# Altium footprint library Agat.PcbLib: 16 footprints
Each footprint in its own frame and in the unit in brackets; x right, y up, seen from the top. Pads: shape width x height; smd on the part's side, far side on the other; paste and mask are expansions set on the pad; w line width, h text height; cw(c..) or ccw(c..) is an arc to the next point about the centre after c.
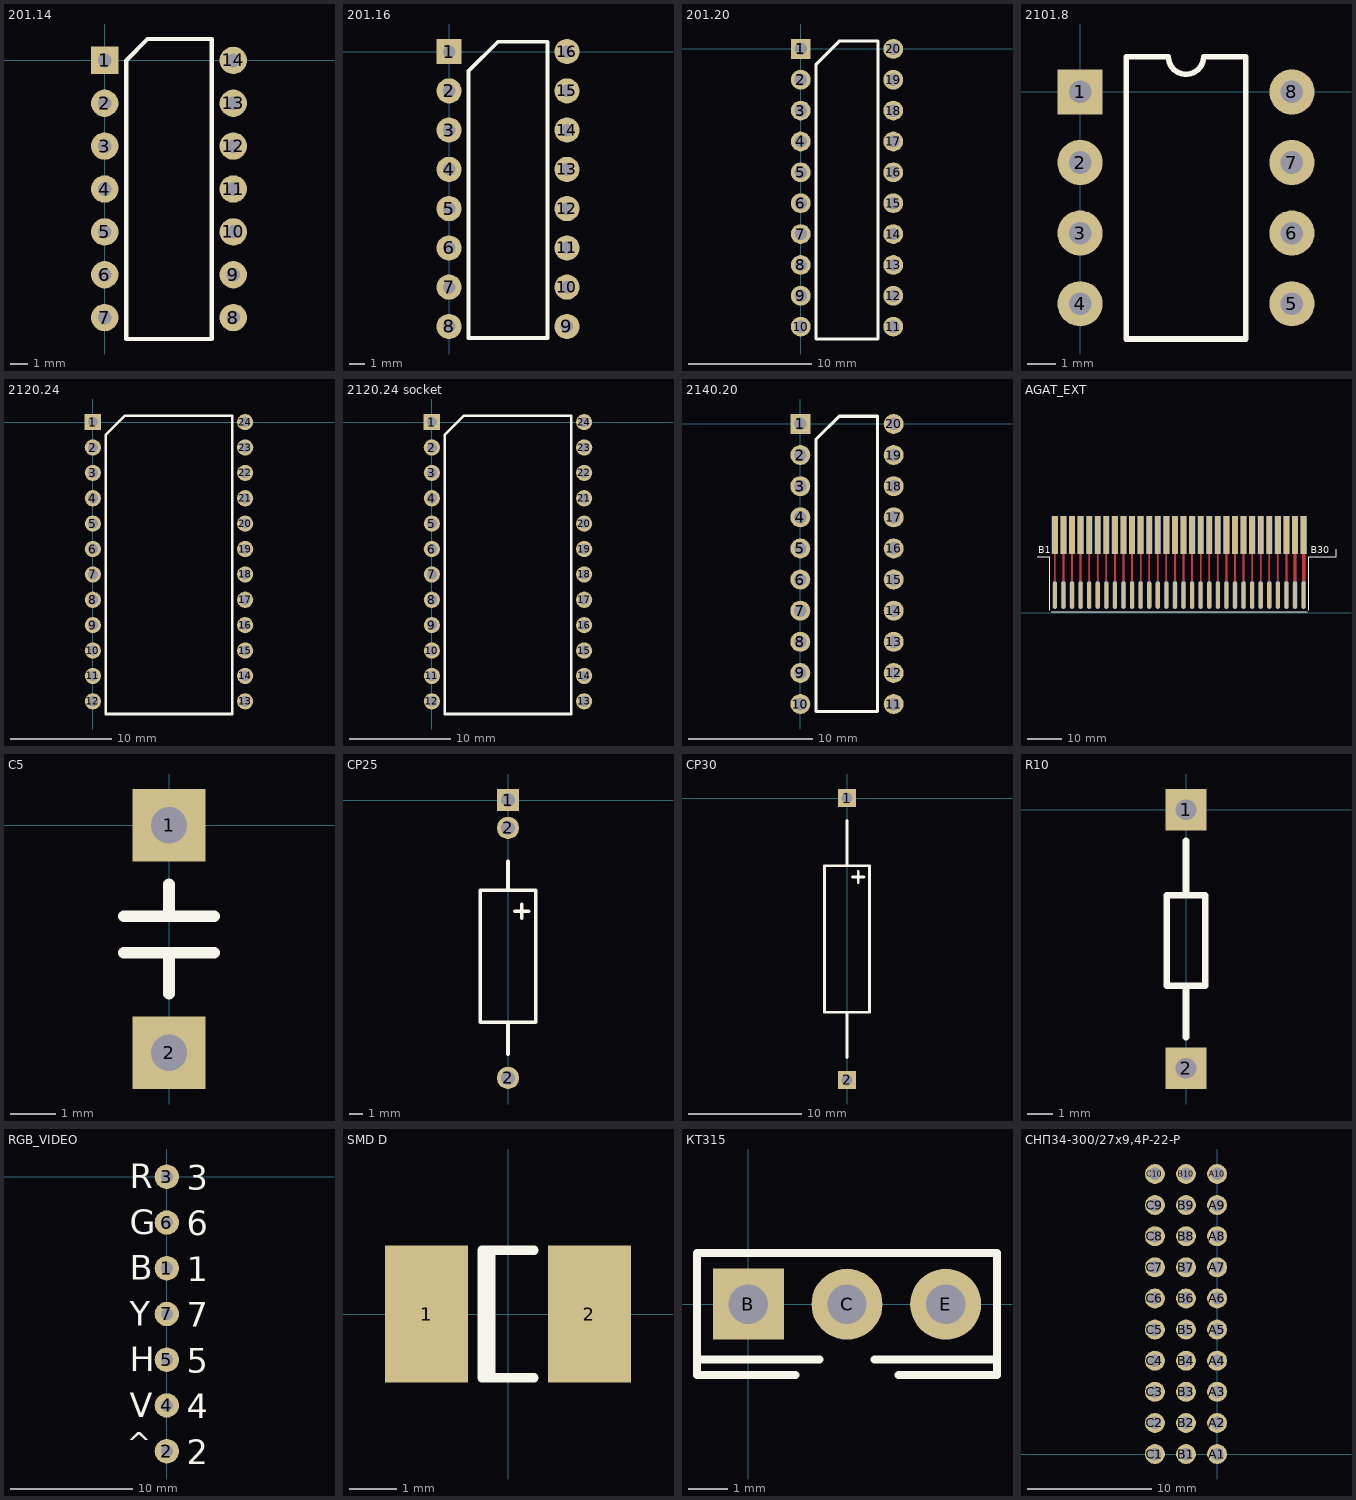
[diagram p0: the footprints below, top view; thin cyan lines are the x and y axes]

## 201.14 [mm]
height 4
pads (14):
  rect 1.6x1.6 hole 0.8: 1(0,0)
  round 1.6 hole 0.8: 2(0,-2.5) 3(0,-5) 4(0,-7.5) 5(0,-10) 6(0,-12.5) 7(0,-15) 8(7.5,-15) 9(7.5,-12.5) 10(7.5,-10) 11(7.5,-7.5) 12(7.5,-5) 13(7.5,-2.5) 14(7.5,0)
Top Overlay:
  lines w0.254: 1.25,-16.25 6.25,-16.25 6.25,1.25 2.5,1.25 1.25,0 1.25,-16.25
3D body "DIP14-300-metric.step": height 4.5, standoff -3.5, extent -0.13,-16.55 7.63,1.55

## 201.16 [mm]
pads (16):
  rect 1.6x1.6 hole 0.8: 1(0,0)
  round 1.6 hole 0.8: 2(0,-2.5) 3(0,-5) 4(0,-7.5) 5(0,-10) 6(0,-12.5) 7(0,-15) 8(0,-17.5) 9(7.5,-17.5) 10(7.5,-15) 11(7.5,-12.5) 12(7.5,-10) 13(7.5,-7.5) 14(7.5,-5) 15(7.5,-2.5) 16(7.5,0)
Top Overlay:
  lines w0.254: 1.25,-18.25 6.25,-18.25 6.25,0.625 3.125,0.625 1.25,-1.25 1.25,-18.25
3D body "DIP16-300-metric.step": height 4.5, standoff -3.5, extent -0.13,-19.05 7.63,1.55

## 201.20 [mm]
pads (20):
  rect 1.6x1.6 hole 1: 1(0,0)
  round 1.6 hole 1: 2(0,-2.5) 3(0,-5) 4(0,-7.5) 5(0,-10) 6(0,-12.5) 7(0,-15) 8(0,-17.5) 9(0,-20) 10(0,-22.5) 11(7.5,-22.5) 12(7.5,-20) 13(7.5,-17.5) 14(7.5,-15) 15(7.5,-12.5) 16(7.5,-10) 17(7.5,-7.5) 18(7.5,-5) 19(7.5,-2.5) 20(7.5,0)
Top Overlay:
  lines w0.254: 1.25,-23.5 6.25,-23.5 6.25,0.625 3.125,0.625 1.25,-1.25 1.25,-23.5
3D body "DIP20-300-metric.step": height 4.5, standoff -3.5, extent 0.02,-24.2 7.78,1.4

## 2101.8 [mm]
pads (8):
  rect 1.6x1.6 hole 0.8: 1(0,0)
  round 1.6 hole 0.8: 2(0,-2.5) 3(0,-5) 4(0,-7.5) 5(7.5,-7.5) 6(7.5,-5) 7(7.5,-2.5) 8(7.5,0)
Top Overlay:
  lines w0.2: 1.635,-8.75 1.635,1.25 3.125,1.25 ccw(c3.75,1.25) 4.375,1.25 5.865,1.25 5.865,-8.75 1.635,-8.75
3D body "DIP8-300-metric.step": height 4.5, standoff -3.5, extent -0.13,-9.1 7.63,1.7

## 2120.24 [mm]
pads (24):
  rect 1.6x1.6 hole 1: 1(0,0)
  round 1.6 hole 1: 2(0,-2.5) 3(0,-5) 4(0,-7.5) 5(0,-10) 6(0,-12.5) 7(0,-15) 8(0,-17.5) 9(0,-20) 10(0,-22.5) 11(0,-25) 12(0,-27.5) 13(15,-27.5) 14(15,-25) 15(15,-22.5) 16(15,-20) 17(15,-17.5) 18(15,-15) 19(15,-12.5) 20(15,-10) 21(15,-7.5) 22(15,-5) 23(15,-2.5) 24(15,0)
Top Overlay:
  lines w0.254: 1.25,-28.75 1.25,-1.25 3.125,0.625 13.75,0.625 13.75,-28.75 1.25,-28.75
3D body "DIP24-600-metric.step": height 5.5, standoff -3.9, extent -0.15,-28.75 15.15,1.25

## 2120.24 socket [mm]
pads (24):
  rect 1.6x1.6 hole 1: 1(0,0)
  round 1.6 hole 1: 2(0,-2.5) 3(0,-5) 4(0,-7.5) 5(0,-10) 6(0,-12.5) 7(0,-15) 8(0,-17.5) 9(0,-20) 10(0,-22.5) 11(0,-25) 12(0,-27.5) 13(15,-27.5) 14(15,-25) 15(15,-22.5) 16(15,-20) 17(15,-17.5) 18(15,-15) 19(15,-12.5) 20(15,-10) 21(15,-7.5) 22(15,-5) 23(15,-2.5) 24(15,0)
Top Overlay:
  lines w0.254: 1.25,-28.75 1.25,-1.25 3.125,0.625 13.75,0.625 13.75,-28.75 1.25,-28.75
3D body "DIP24-600-metric-with-a-window.step": height 8.2, standoff 0, extent -0.05,-28.5 15.25,0.8
3D body "User Library-24pin 0_6inch 2_54mm IC DIP Gold Socket.step": height 5, standoff -3, extent -1.39,-28.98 16.39,1.5

## 2140.20 [mm]
pads (20):
  rect 1.6x1.6 hole 1: 1(0,0)
  round 1.6 hole 1: 2(0,-2.5) 3(0,-5) 4(0,-7.5) 5(0,-10) 6(0,-12.5) 7(0,-15) 8(0,-17.5) 9(0,-20) 10(0,-22.5) 11(7.5,-22.5) 12(7.5,-20) 13(7.5,-17.5) 14(7.5,-15) 15(7.5,-12.5) 16(7.5,-10) 17(7.5,-7.5) 18(7.5,-5) 19(7.5,-2.5) 20(7.5,0)
Top Overlay:
  lines w0.254: 1.25,-23.1 1.25,-1.25 3.125,0.625 6.2,0.625 6.2,-23.1 1.25,-23.1
3D body "DIP-20P-M01.step": height 4.36, standoff -3, extent -0.1,-23.5 7.77,1.1

## AGAT_EXT [mm]
pads (120):
  rrect100% 1.2x8 smd far side: A1(159.354,5.17) A2(161.854,5.17) A3(164.354,5.17) A4(166.854,5.17) A5(169.354,5.17) A6(171.854,5.17) A7(174.354,5.17) A8(176.854,5.17) A9(179.354,5.17) A10(181.854,5.17) A11(184.354,5.17) A12(186.854,5.17) A13(189.354,5.17) A14(191.854,5.17) A15(194.354,5.17) A16(196.854,5.17) A17(199.354,5.17) A18(201.854,5.17) A19(204.354,5.17) A20(206.854,5.17) A21(209.354,5.17) A22(211.854,5.17) A23(214.354,5.17) A24(216.854,5.17) A25(219.354,5.17) A26(221.854,5.17) A27(224.354,5.17) A28(226.854,5.17) A29(229.354,5.17) A30(231.854,5.17)
  rect 1.7x11 smd far side: A1(159.354,22.67) A2(161.854,22.67) A3(164.354,22.67) A4(166.854,22.67) A5(169.354,22.67) A6(171.854,22.67) A7(174.354,22.67) A8(176.854,22.67) A9(179.354,22.67) A10(181.854,22.67) A11(184.354,22.67) A12(186.854,22.67) A13(189.354,22.67) A14(191.854,22.67) A15(194.354,22.67) A16(196.854,22.67) A17(199.354,22.67) A18(201.854,22.67) A19(204.354,22.67) A20(206.854,22.67) A21(209.354,22.67) A22(211.854,22.67) A23(214.354,22.67) A24(216.854,22.67) A25(219.354,22.67) A26(221.854,22.67) A27(224.354,22.67) A28(226.854,22.67) A29(229.354,22.67) A30(231.854,22.67)
  rrect100% 1.2x8 smd: B1(159.354,5.17) B2(161.854,5.17) B3(164.354,5.17) B4(166.854,5.17) B5(169.354,5.17) B6(171.854,5.17) B7(174.354,5.17) B8(176.854,5.17) B9(179.354,5.17) B10(181.854,5.17) B11(184.354,5.17) B12(186.854,5.17) B13(189.354,5.17) B14(191.854,5.17) B15(194.354,5.17) B16(196.854,5.17) B17(199.354,5.17) B18(201.854,5.17) B19(204.354,5.17) B20(206.854,5.17) B21(209.354,5.17) B22(211.854,5.17) B23(214.354,5.17) B24(216.854,5.17) B25(219.354,5.17) B26(221.854,5.17) B27(224.354,5.17) B28(226.854,5.17) B29(229.354,5.17) B30(231.854,5.17)
  rect 1.7x11 smd: B1(159.354,22.67) B2(161.854,22.67) B3(164.354,22.67) B4(166.854,22.67) B5(169.354,22.67) B6(171.854,22.67) B7(174.354,22.67) B8(176.854,22.67) B9(179.354,22.67) B10(181.854,22.67) B11(184.354,22.67) B12(186.854,22.67) B13(189.354,22.67) B14(191.854,22.67) B15(194.354,22.67) B16(196.854,22.67) B17(199.354,22.67) B18(201.854,22.67) B19(204.354,22.67) B20(206.854,22.67) B21(209.354,22.67) B22(211.854,22.67) B23(214.354,22.67) B24(216.854,22.67) B25(219.354,22.67) B26(221.854,22.67) B27(224.354,22.67) B28(226.854,22.67) B29(229.354,22.67) B30(231.854,22.67)
Top Layer:
  lines w0.5: 159.354,8.97 159.354,18 ; 161.854,8.77 161.854,18 ; 164.354,8.87 164.354,18 ; 166.5,18 166.854,17.646 166.854,8.77 ; 169.354,8.77 169.354,18 ; 171.854,8.97 171.854,17.5 ; 174.354,8.87 174.354,17.5 ; 176.854,8.77 176.854,17.5 ; 179.354,9.27 179.354,17.5 ; 181.854,8.97 181.854,17.5 ; 184.354,9.07 184.354,17.5 ; 186.854,8.77 186.854,17.5 ; 189.354,8.77 189.354,17.5 ; 191.854,8.77 191.854,17.5 ; 194.354,8.77 194.354,17.5 ; 196.854,8.77 196.854,17.5 ; 199.354,8.77 199.354,17.5 ; 201.854,8.77 201.854,17.5 ; 204.354,8.77 204.354,17.5 ; 206.854,8.77 206.854,17.5 ; 209.354,8.77 209.354,17.5 ; 211.854,8.87 211.854,17.5 ; 214.354,8.77 214.354,17.5 ; 216.854,8.97 216.854,17.5 ; 219.354,8.77 219.354,17.5 ; 221.854,8.77 221.854,17.5 ; 224.354,8.87 224.354,17.5 ; 226.854,8.77 226.854,17.5
  lines w1: 229.354,8.77 229.354,17.5 ; 231.854,8.77 231.854,17.5
Bottom Layer:
  lines w0.5: 159.354,8.97 159.354,17.5 ; 161.854,8.77 161.854,17.5 ; 164.354,8.97 164.354,18 ; 166.854,8.77 166.854,17.5 ; 169.354,8.77 169.354,17.5 ; 171.854,8.87 171.854,18 ; 174.354,8.97 174.354,17.5 ; 176.854,8.77 176.854,17.5 ; 179.354,9.07 179.354,17.5 ; 181.854,9.17 181.854,17.5 ; 184.354,8.87 184.354,18 ; 186.854,8.77 186.854,17.5 ; 189.354,8.77 189.354,18 ; 191.854,8.77 191.854,17.5 ; 194.354,8.77 194.354,17.5 ; 196.854,8.77 196.854,18 ; 199.354,8.77 199.354,18 ; 201.854,8.77 201.854,18 ; 204.354,8.77 204.354,17.5 ; 206.854,8.77 206.854,17.5 ; 209.354,8.77 209.354,17.5 ; 211.854,8.87 211.854,18 ; 214.354,8.77 214.354,17.5 ; 216.854,8.87 216.854,17.5 ; 219.354,8.77 219.354,17.5 ; 221.854,8.77 221.854,17.5 ; 224.354,8.87 224.354,18 ; 226.854,8.77 226.854,17.5
  lines w1: 229.354,8.77 229.354,18 ; 231.854,8.77 231.854,17.5
Top Overlay:
  lines w0.2: 154.27,16.27 157.854,16.27 157.854,0.77 ; 158.354,0.27 232.854,0.27 ; 233.354,0.77 233.354,16.27 241.3,16.27 ; 241.3,16.3 241.3,18.5
  text "B1" at 154.554,17.354 h2
  text "B30" at 233.954,17.354 h2
Bottom Overlay:
  text "A1" at 157.246,17.354 h2
  text "A30" at 239.346,17.254 h2

## C5 [mm]
height 7
pads (2):
  rect 1.6x1.6 hole 0.8: 1(0,0) 2(0,-5)
Top Overlay:
  lines w0.254: -1,-2.8 1,-2.8 ; -1,-2 1,-2 ; 0,-3.7 0,-2.8 ; 0,-1.9 0,-1.3
3D body "Disc_CAP d6x3_5_5mm.step": height 8.1, standoff -2.02, extent -1.05,-5.54 1.05,0.46

## CP25 [mm]
height 7
pads (3):
  rect 1.6x1.6 hole 1: 1(0,0)
  round 1.6 hole 1: 2(0,-20) 2(0,-2)
Top Overlay:
  lines w0.254: 0,-18.3 0,-16 ; 0,-6.5 0,-4.4 ; 0.5,-8 1.5,-8 ; 1,-8.5 1,-7.5 ; -2,-16 2,-16 2,-6.5 -2,-6.5 -2,-16
3D body "User Library-Capacitor_Axial_Tantalum.step": height 5.86, standoff -2.39, extent -2.555,-20.415 2.555,0.415

## CP30 [mm]
height 7
pads (2):
  rect 1.6x1.6 hole 1: 1(0,0) 2(0,-25)
Top Overlay:
  lines w0.254: 0,-23 0,-19 ; 0,-6 0,-2 ; 0.5,-7 1.5,-7 ; 1,-7.5 1,-6.5 ; -2,-19 2,-19 2,-6 -2,-6 -2,-19
3D body "User Library-Capacitor_Axial_Tantalum.step": height 5.86, standoff -2.39, extent -2.555,-25.415 2.555,-4.585
3D body "User Library-Capacitor_Axial_Tantalum.step": height 5.86, standoff -2.39, extent -2.555,-20.415 2.555,0.415

## R10 [mm]
height 7
pads (2):
  rect 1.6x1.6 hole 0.8: 1(0,0) 2(0,-10)
Top Overlay:
  lines w0.254: 0,-8.8 0,-6.8 ; 0,-3.3 0,-1.2 ; -0.75,-6.8 -0.75,-3.3 0.75,-3.3 0.75,-6.8 -0.75,-6.8
3D body "Res40-Axial Short 0_25W-330R.step": height 2.41, standoff -2, extent -1.2,-10.38 1.182,0.38

## RGB_VIDEO [mm]
pads (7):
  round 2 hole 1: 1(0,-7.5) 2(0,-22.5) 3(0,0) 4(0,-18.75) 5(0,-15) 6(0,-3.75) 7(0,-11.25)
Top Overlay:
  text "2" at 1.65,-23.55 h2
  text "^" at -3.3,-23.3 h3
  text "4" at 1.65,-19.8 h2
  text "V" at -3.05,-19.7 h2
  text "5" at 1.65,-16.05 h2
  text "H" at -3.05,-15.95 h2
  text "7" at 1.65,-12.3 h2
  text "Y" at -3.05,-12.2 h2
  text "1" at 1.65,-8.55 h2
  text "B" at -3.05,-8.45 h2
  text "6" at 1.65,-4.8 h2
  text "G" at -3.05,-4.7 h2
  text "3" at 1.65,-1.05 h2
  text "R" at -3.05,-0.95 h2
3D body: height 7, standoff -3, extent -0.5,-0.5 0.5,0.5
3D body: height 7, standoff -3, extent -0.5,-4.25 0.5,-3.25
3D body: height 7, standoff -3, extent -0.5,-8 0.5,-7
3D body: height 7, standoff -3, extent -0.5,-11.75 0.5,-10.75
3D body: height 7, standoff -3, extent -0.5,-15.5 0.5,-14.5
3D body: height 7, standoff -3, extent -0.5,-19.25 0.5,-18.25
3D body: height 7, standoff -3, extent -0.5,-23 0.5,-22

## SMD D [mm] "Chip Capacitor; Body 3.81 x 2.54 mm (LxW typ)"
height 1.66
pads (2):
  rect 1.75x2.9 smd: 1(-1.725,0) 2(1.725,0)
Top Overlay:
  lines w0.2: -0.36,-1.35 -0.36,1.35 ; 0.55,-1.35 -0.55,-1.35 -0.55,1.35 0.55,1.35
3D body "EIA 3216.stp": height 1.9, standoff -0.05, extent -1.7,-0.8 1.7,0.8

## КТ315 [mm]
pads (3):
  rect 1.8x1.8 hole 1: B(0,0)
  round 1.8 hole 1: C(2.5,0) E(5,0)
Top Overlay:
  lines w0.2: -1.3,-1.4 1.8,-1.4 ; 1.2,-1.8 -1.3,-1.8 -1.3,1.3 6.3,1.3 6.3,-1.8 3.8,-1.8 ; 3.2,-1.4 6.3,-1.4
3D body "KT315.step": height 7.5, standoff -3.5, extent -1.096,-1.496 6.096,1.496

## СНП34-300/27х9,4Р-22-Р [mm]
pads (30):
  round 1.6 hole 1: A1(0,0) A2(0,2.5) A3(0,5) A4(0,7.5) A5(0,10) A6(0,12.5) A7(0,15) A8(0,17.5) A9(0,20) A10(0,22.5) B1(-2.5,0) B2(-2.5,2.5) B3(-2.5,5) B4(-2.5,7.5) B5(-2.5,10) B6(-2.5,12.5) B7(-2.5,15) B8(-2.5,17.5) B9(-2.5,20) B10(-2.5,22.5) C1(-5,0) C2(-5,2.5) C3(-5,5) C4(-5,7.5) C5(-5,10) C6(-5,12.5) C7(-5,15) C8(-5,17.5) C9(-5,20) C10(-5,22.5)
3D body "snp34-30.stp": height 9.7, standoff -3.3, extent -5.15,-2.3 14,24.7